# Altium footprint library BH-20(DS1013-20S).PcbLib: 1 footprints
Each footprint in its own frame and in the unit in brackets; x right, y up, seen from the top. Pads: shape width x height; smd on the part's side, far side on the other; paste and mask are expansions set on the pad; w line width, h text height; cw(c..) or ccw(c..) is an arc to the next point about the centre after c.
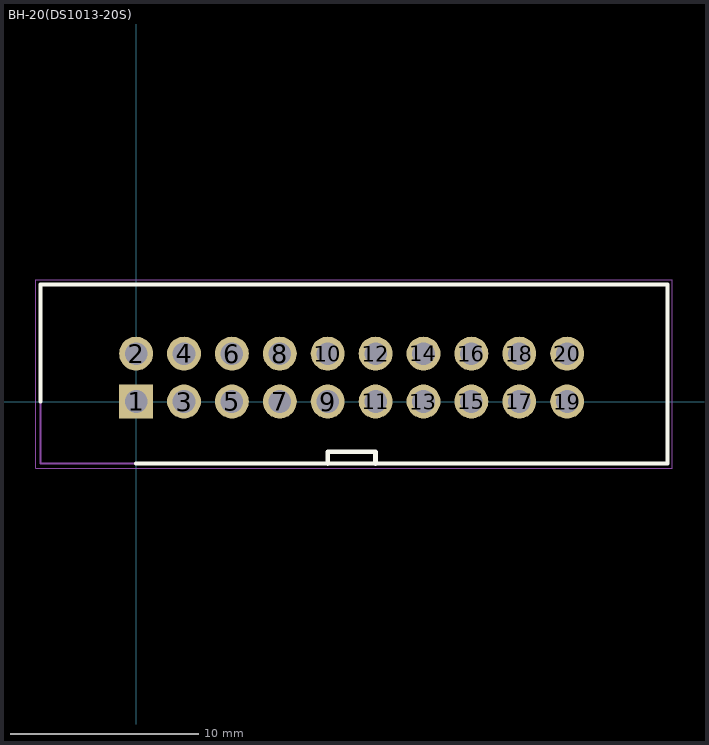
[diagram p0: the footprint, top view; thin cyan lines are the x and y axes]

## BH-20(DS1013-20S) [mm]
pads (20):
  rect 1.8x1.8 hole 1.2: 1(0,0)
  round 1.8 hole 1.2: 2(0,2.54) 3(2.54,0) 4(2.54,2.54) 5(5.08,0) 6(5.08,2.54) 7(7.62,0) 8(7.62,2.54) 9(10.16,0) 10(10.16,2.54) 11(12.7,0) 12(12.7,2.54) 13(15.24,0) 14(15.24,2.54) 15(17.78,0) 16(17.78,2.54) 17(20.32,0) 18(20.32,2.54) 19(22.86,0) 20(22.86,2.54)
Top Overlay:
  lines w0.2: -5.07,0 -5.07,6.2 28.18,6.2 28.18,-3.28 0,-3.28
  lines w0.254: 10.16,-3.28 10.16,-2.667 12.7,-2.667 12.7,-3.28
Mechanical 13:
  lines w0.1: -5.07,-3.28 28.18,-3.28 28.18,6.2 -5.07,6.2 -5.07,-3.28
Mechanical 15:
  lines w0.05: -5.32,-3.53 28.43,-3.53 28.43,6.45 -5.32,6.45 -5.32,-3.53
3D body "DS1013-20SSIB1-B-0.stp": height 9.55, standoff -3.35, extent -5.07,-3.28 27.93,5.82